# EAGLE library part MKE02_64PIN (library jason_eagle6)
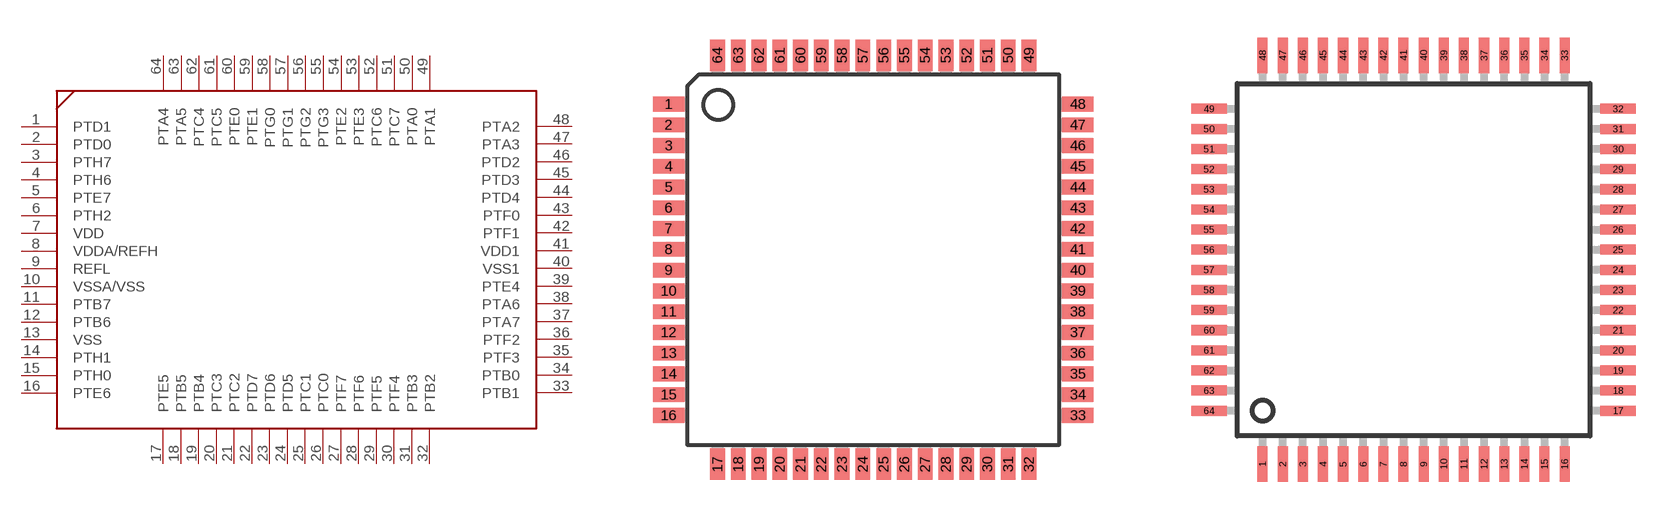
[diagram p27: symbol with the pads of TQFP64; footprints TQFP64, QFP64_SOT393]

Designator prefix -

## MKE02_64PIN64  [TQFP64]
1  PTD1
2  PTD0
3  PTH7
4  PTH6
5  PTE7
6  PTH2
7  VDD  pwr
8  VDDA/REFH  pwr
9  REFL
10  VSSA/VSS  pwr
11  PTB7
12  PTB6
13  VSS  pwr
14  PTH1
15  PTH0
16  PTE6
17  PTE5
18  PTB5
19  PTB4
20  PTC3
21  PTC2
22  PTD7
23  PTD6
24  PTD5
25  PTC1
26  PTC0
27  PTF7
28  PTF6
29  PTF5
30  PTF4
31  PTB3
32  PTB2
33  PTB1
34  PTB0
35  PTF3
36  PTF2
37  PTA7
38  PTA6
39  PTE4
40  VSS1  pwr
41  VDD1  pwr
42  PTF1
43  PTF0
44  PTD4
45  PTD3
46  PTD2
47  PTA3
48  PTA2
49  PTA1
50  PTA0
51  PTC7
52  PTC6
53  PTE3
54  PTE2
55  PTG3
56  PTG2
57  PTG1
58  PTG0
59  PTE1
60  PTE0
61  PTC5
62  PTC4
63  PTA5
64  PTA4

## MKE02_64PINQFP64  [QFP64_SOT393]
1  PTA0
2  PTA1
3  PTA2
4  PTA3
5  PTA4
6  PTA5
7  PTA6
8  PTA7
9  PTB0
10  PTB1
11  PTB2
12  PTB3
13  PTB4
14  PTB5
15  PTB6
16  PTB7
17  PTC0
18  PTC1
19  PTC2
20  PTC3
21  PTC4
22  PTC5
23  PTC6
24  PTC7
25  PTD0
26  PTD1
27  PTD2
28  PTD3
29  PTD4
30  PTD5
31  PTD6
32  PTD7
33  PTE0
34  PTE1
35  PTE2
36  PTE3
37  PTE4
38  PTE5
39  PTE6
40  PTE7
41  PTF0
42  PTF1
43  PTF2
44  PTF3
45  PTF4
46  PTF5
47  PTF6
48  PTF7
49  PTG0
50  PTG1
51  PTG2
52  PTG3
53  PTH0
54  PTH1
55  PTH2
56  PTH6
57  PTH7
58  REFL
59  VDD  pwr
60  VDD1  pwr
61  VDDA/REFH  pwr
62  VSS  pwr
63  VSS1  pwr
64  VSSA/VSS  pwr

## Footprint TQFP64 (pad centres in mm)
Thin Plasic Quad Flat Package
smd 1.194 x 0.559: 1 -7.76,5.905; 2 -7.76,5.118; 3 -7.76,4.331; 4 -7.76,3.543; 5 -7.76,2.756; 6 -7.76,1.968; 7 -7.76,1.181; 8 -7.76,0.394; 9 -7.76,-0.394; 10 -7.76,-1.181; 11 -7.76,-1.968; 12 -7.76,-2.756; 13 -7.76,-3.543; 14 -7.76,-4.331; 15 -7.76,-5.118; 16 -7.76,-5.905; 33 7.76,-5.905; 34 7.76,-5.118; 35 7.76,-4.331; 36 7.76,-3.543; 37 7.76,-2.756; 38 7.76,-1.968; 39 7.76,-1.181; 40 7.76,-0.394; 41 7.76,0.394; 42 7.76,1.181; 43 7.76,1.968; 44 7.76,2.756; 45 7.76,3.543; 46 7.76,4.331; 47 7.76,5.118; 48 7.76,5.905
smd 0.559 x 1.194: 17 -5.905,-7.76; 18 -5.118,-7.76; 19 -4.331,-7.76; 20 -3.543,-7.76; 21 -2.756,-7.76; 22 -1.968,-7.76; 23 -1.181,-7.76; 24 -0.394,-7.76; 25 0.394,-7.76; 26 1.181,-7.76; 27 1.968,-7.76; 28 2.756,-7.76; 29 3.543,-7.76; 30 4.331,-7.76; 31 5.118,-7.76; 32 5.905,-7.76; 49 5.905,7.76; 50 5.118,7.76; 51 4.331,7.76; 52 3.543,7.76; 53 2.756,7.76; 54 1.968,7.76; 55 1.181,7.76; 56 0.394,7.76; 57 -0.394,7.76; 58 -1.181,7.76; 59 -1.968,7.76; 60 -2.756,7.76; 61 -3.543,7.76; 62 -4.331,7.76; 63 -5.118,7.76; 64 -5.905,7.76

## Footprint QFP64_SOT393 (pad centres in mm)
Plastic Quad Flat Package SOT393-1/-2 64 leads source: http://www.semiconductors.philips.com/ LQFP-MSQFP-QFP-SQFP-TQFP-REFLOW.pdf
smd 0.4 x 1.4: 1 -6,-8.125; 2 -5.2,-8.125; 3 -4.4,-8.125; 4 -3.6,-8.125; 5 -2.8,-8.125; 6 -2,-8.125; 7 -1.2,-8.125; 8 -0.4,-8.125; 9 0.4,-8.125; 10 1.2,-8.125; 11 2,-8.125; 12 2.8,-8.125; 13 3.6,-8.125; 14 4.4,-8.125; 15 5.2,-8.125; 16 6,-8.125; 33 6,8.125; 34 5.2,8.125; 35 4.4,8.125; 36 3.6,8.125; 37 2.8,8.125; 38 2,8.125; 39 1.2,8.125; 40 0.4,8.125; 41 -0.4,8.125; 42 -1.2,8.125; 43 -2,8.125; 44 -2.8,8.125; 45 -3.6,8.125; 46 -4.4,8.125; 47 -5.2,8.125; 48 -6,8.125
smd 1.4 x 0.4: 17 8.125,-6; 18 8.125,-5.2; 19 8.125,-4.4; 20 8.125,-3.6; 21 8.125,-2.8; 22 8.125,-2; 23 8.125,-1.2; 24 8.125,-0.4; 25 8.125,0.4; 26 8.125,1.2; 27 8.125,2; 28 8.125,2.8; 29 8.125,3.6; 30 8.125,4.4; 31 8.125,5.2; 32 8.125,6; 49 -8.125,6; 50 -8.125,5.2; 51 -8.125,4.4; 52 -8.125,3.6; 53 -8.125,2.8; 54 -8.125,2; 55 -8.125,1.2; 56 -8.125,0.4; 57 -8.125,-0.4; 58 -8.125,-1.2; 59 -8.125,-2; 60 -8.125,-2.8; 61 -8.125,-3.6; 62 -8.125,-4.4; 63 -8.125,-5.2; 64 -8.125,-6